# EAGLE library part 9S12D32 (library JLB6_Processor)
Freescale 9S12D32
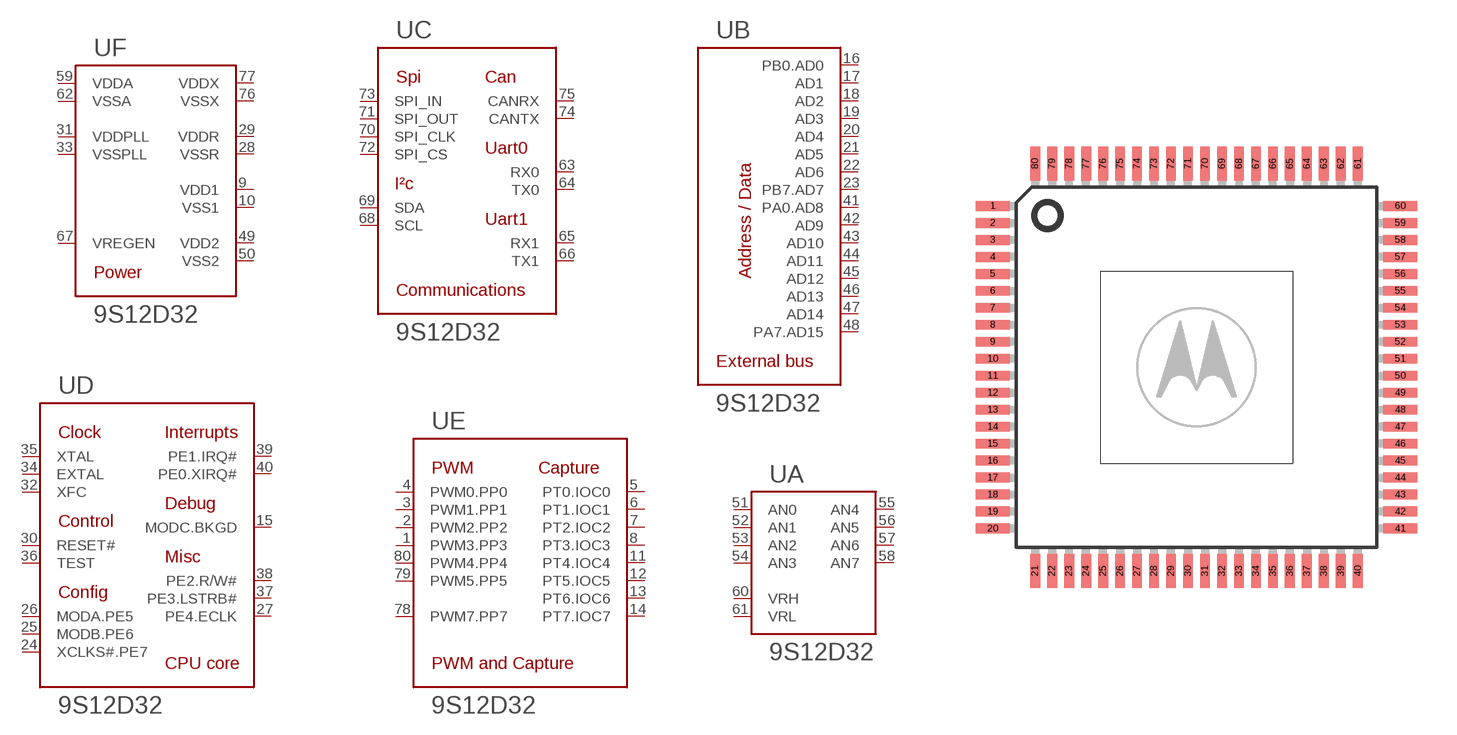
[diagram p8: symbol with the pads of TQFP-80; footprint TQFP-80]

Designator prefix U; gates A=9S12D_ANALOG B=9S12D_BUS C=9S12D_COM D=9S12D_CPU E=9S12D_IO F=9S12D_PWR

## 9S12D32  [TQFP-80]
1  E:PWM3.PP3
2  E:PWM2.PP2
3  E:PWM1.PP1
4  E:PWM0.PP0
5  E:PT0.IOC0
6  E:PT1.IOC1
7  E:PT2.IOC2
8  E:PT3.IOC3
9  F:VDD1  pwr
10  F:VSS1  pwr
11  E:PT4.IOC4
12  E:PT5.IOC5
13  E:PT6.IOC6
14  E:PT7.IOC7
15  D:MODC.BKGD
16  B:PB0.AD0  out
17  B:AD1  out
18  B:AD2  out
19  B:AD3  out
20  B:AD4  out
21  B:AD5  out
22  B:AD6  out
23  B:PB7.AD7  out
24  D:XCLKS#.PE7
25  D:MODB.PE6
26  D:MODA.PE5
27  D:PE4.ECLK
28  F:VSSR  pwr
29  F:VDDR  pwr
30  D:RESET#
31  F:VDDPLL  pwr
32  D:XFC
33  F:VSSPLL  pwr
34  D:EXTAL  in
35  D:XTAL  out
36  D:TEST
37  D:PE3.LSTRB#
38  D:PE2.R/W#
39  D:PE1.IRQ#
40  D:PE0.XIRQ#
41  B:PA0.AD8  out
42  B:AD9  out
43  B:AD10  out
44  B:AD11  out
45  B:AD12  out
46  B:AD13  out
47  B:AD14  out
48  B:PA7.AD15  out
49  F:VDD2  pwr
50  F:VSS2  pwr
51  A:AN0
52  A:AN1
53  A:AN2
54  A:AN3
55  A:AN4
56  A:AN5
57  A:AN6
58  A:AN7
59  F:VDDA  pwr
60  A:VRH  in
61  A:VRL  in
62  F:VSSA  pwr
63  C:RX0
64  C:TX0
65  C:RX1
66  C:TX1
67  F:VREGEN  in
68  C:SCL
69  C:SDA
70  C:SPI_CLK
71  C:SPI_OUT
72  C:SPI_CS  in
73  C:SPI_IN
74  C:CANTX  out
75  C:CANRX  in
76  F:VSSX  pwr
77  F:VDDX  pwr
78  E:PWM7.PP7
79  E:PWM5.PP5
80  E:PWM4.PP4

## Footprint TQFP-80 (pad centres in mm)
smd 1.3 x 0.38: 1 -7.795,6.175; 2 -7.795,5.525; 3 -7.795,4.875; 4 -7.795,4.225; 5 -7.795,3.575; 6 -7.795,2.925; 7 -7.795,2.275; 8 -7.795,1.625; 9 -7.795,0.975; 10 -7.795,0.325; 11 -7.795,-0.325; 12 -7.795,-0.975; 13 -7.795,-1.625; 14 -7.795,-2.275; 15 -7.795,-2.925; 16 -7.795,-3.575; 17 -7.795,-4.225; 18 -7.795,-4.875; 19 -7.795,-5.525; 20 -7.795,-6.175; 41 7.795,-6.175; 42 7.795,-5.525; 43 7.795,-4.875; 44 7.795,-4.225; 45 7.795,-3.575; 46 7.795,-2.925; 47 7.795,-2.275; 48 7.795,-1.625; 49 7.795,-0.975; 50 7.795,-0.325; 51 7.795,0.325; 52 7.795,0.975; 53 7.795,1.625; 54 7.795,2.275; 55 7.795,2.925; 56 7.795,3.575; 57 7.795,4.225; 58 7.795,4.875; 59 7.795,5.525; 60 7.795,6.175
smd 0.38 x 1.3: 21 -6.175,-7.795; 22 -5.525,-7.795; 23 -4.875,-7.795; 24 -4.225,-7.795; 25 -3.575,-7.795; 26 -2.925,-7.795; 27 -2.275,-7.795; 28 -1.625,-7.795; 29 -0.975,-7.795; 30 -0.325,-7.795; 31 0.325,-7.795; 32 0.975,-7.795; 33 1.625,-7.795; 34 2.275,-7.795; 35 2.925,-7.795; 36 3.575,-7.795; 37 4.225,-7.795; 38 4.875,-7.795; 39 5.525,-7.795; 40 6.175,-7.795; 61 6.175,7.795; 62 5.525,7.795; 63 4.875,7.795; 64 4.225,7.795; 65 3.575,7.795; 66 2.925,7.795; 67 2.275,7.795; 68 1.625,7.795; 69 0.975,7.795; 70 0.325,7.795; 71 -0.325,7.795; 72 -0.975,7.795; 73 -1.625,7.795; 74 -2.275,7.795; 75 -2.925,7.795; 76 -3.575,7.795; 77 -4.225,7.795; 78 -4.875,7.795; 79 -5.525,7.795; 80 -6.175,7.795